# EAGLE library part 7508112349 (library WE-OLRM)
WE-OLRM RM-Style Offline Flyback Transformers Characteristics Reinforced insulation Extended rail Vertical core direction Universal input Compact Grounded core for improved EMI performance Applications White goods Offline flyback applications Industrial controls LED lighting Smart adapters Metering <https://www.we-online.com/catalog/media/o93418v209%20Family_OLRM.jpg> Details see: www.we-online.com/en/components/products/WE-OLRM Created by Ella Wu 2023-04-11 2023 (C) Wurth Elektronik
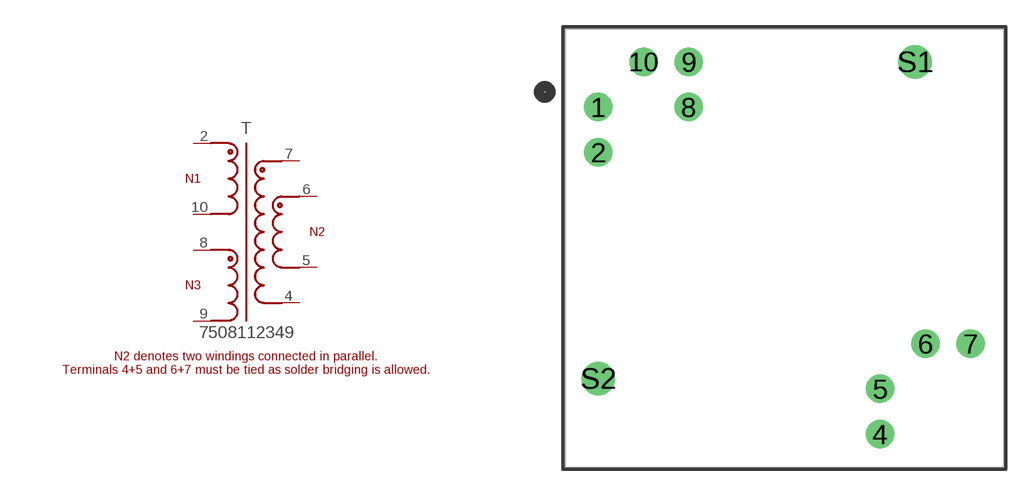
[diagram p6: symbol with the pads of WE-OLRM_RM8; footprint WE-OLRM_RM8]

Designator prefix T

## 7508112349 (DATASHEET-URL: https://www.we-online.com/redexpert/spec/7508112349?ae; F-SWTICH: 44 - 77kHz; HEIGHT: 17.32mm; IOUT1: 2.2A; ISAT1: 2.5A; L1: 681µH; LENGTH: 24.64mm; MOUNT: THT; N: 8.75:1:1.38; PART-NUMBER: 7508112349; VALUE: 7508112349; VAUX: 16V; VIN: 85 - 265 V (AC); VOUT1: 12V; VT: 3900V (AC); WIDTH: 24.64mm)  [WE-OLRM_RM8]
2  2  pas
4  4  pas
5  5  pas
6  6  pas
7  7  pas
8  8  pas
9  9  pas
10  10  pas

## Footprint WE-OLRM_RM8 (pad centres in mm)
WE-OLRM RM-Style Offline Flyback Transformers Size: RM8,THT,10pins LXWXH=24.64X24.64X17.32mm
drill 1.07: 1 -10.45,7.91; 2 -10.45,5.37; 4 5.37,-10.45; 5 5.37,-7.91; 6 7.91,-5.37; 7 10.45,-5.37; 8 -5.37,7.91; 9 -5.37,10.45; 10 -7.91,10.45
drill 1.25: S1 7.33,10.45; S2 -10.45,-7.33